# EAGLE library part MOLEX_SL_31 (library molex-sl-connectors_jw)
Molex SL-Series PCB Header, 31-Pos, 0.1" (2.54mm) Centers
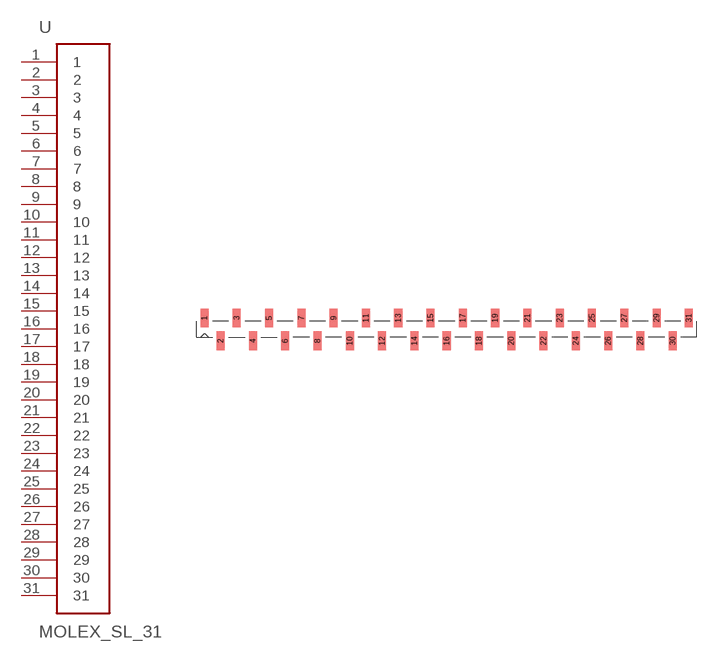
[diagram p25: symbol with the pads of SL_87898_31; footprint SL_87898_31]

Designator prefix -

## MOLEX_SL_31-87898  [SL_87898_31]
1  1
2  2
3  3
4  4
5  5
6  6
7  7
8  8
9  9
10  10
11  11
12  12
13  13
14  14
15  15
16  16
17  17
18  18
19  19
20  20
21  21
22  22
23  23
24  24
25  25
26  26
27  27
28  28
29  29
30  30
31  31

## Footprint SL_87898_31 (pad centres in mm)
SMD Vertical Header (no latch or pegs) Package also includes Pick-N-Place Cap Tube packaging w/o Pick-N-Place Cap: 87898-3121 87898-3122 87898-3124 87898-3125 87898-3126 Tube packaging w/ Pick-N-Place Cap: 87898-3131 87898-3132 87898-3134 87898-3135 87898-3136
smd 1.27 x 2.946: 1 -38.1,1.803; 2 -35.56,-1.803; 3 -33.02,1.803; 4 -30.48,-1.803; 5 -27.94,1.803; 6 -25.4,-1.803; 7 -22.86,1.803; 8 -20.32,-1.803; 9 -17.78,1.803; 10 -15.24,-1.803; 11 -12.7,1.803; 12 -10.16,-1.803; 13 -7.62,1.803; 14 -5.08,-1.803; 15 -2.54,1.803; 16 0,-1.803; 17 2.54,1.803; 18 5.08,-1.803; 19 7.62,1.803; 20 10.16,-1.803; 21 12.7,1.803; 22 15.24,-1.803; 23 17.78,1.803; 24 20.32,-1.803; 25 22.86,1.803; 26 25.4,-1.803; 27 27.94,1.803; 28 30.48,-1.803; 29 33.02,1.803; 30 35.56,-1.803; 31 38.1,1.803